# Altium footprint library BAT_1056.PcbLib: 1 footprints
Each footprint in its own frame and in the unit in brackets; x right, y up, seen from the top. Pads: shape width x height; smd on the part's side, far side on the other; paste and mask are expansions set on the pad; w line width, h text height; cw(c..) or ccw(c..) is an arc to the next point about the centre after c.
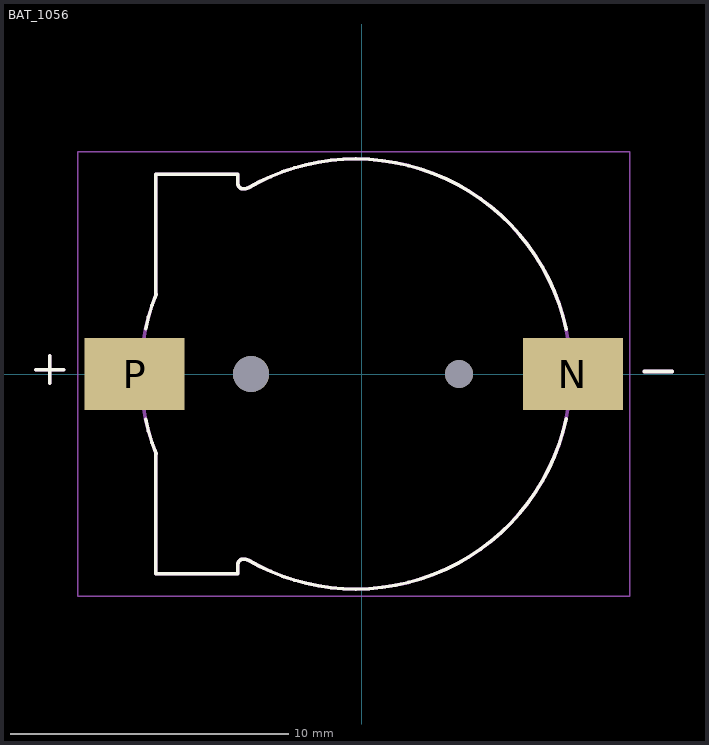
[diagram p0: the footprint, top view; thin cyan lines are the x and y axes]

## BAT_1056 [mm]
height 3.99
pads (4):
  rect 3.6x2.6 smd: N(7.61,0) P(-8.18,0)
  round 1.3 hole 1.3 unplated: ""(-3.98,0)
  round 1 hole 1 unplated: ""(3.51,0)
Top Overlay:
  lines w0.127: -11.735,0.16 -10.735,0.16 ; -11.235,-0.34 -11.235,0.66 ; -7.78,-1.632 ccw(c-0.484,-0.082) -7.4,-2.876 ; -7.78,1.632 cw(c-0.484,0.082) -7.4,2.876 ; -7.41,-2.85 -7.41,-7.2 -4.46,-7.2 -4.46,-6.88 ; -7.41,2.85 -7.41,7.2 -4.46,7.2 -4.46,6.88 ; -4.46,-6.881 cw(c-4.255,-6.87) -4.266,-6.665 cw(c-4.248,-7.014) -4.084,-6.705 ; -4.46,6.881 ccw(c-4.255,6.87) -4.266,6.665 ccw(c-4.248,7.014) -4.084,6.705 ; -4.078,-6.709 ccw(c-0.212,-0.013) -0.212,-7.745 ; -4.078,6.709 cw(c-0.212,0.013) -0.212,7.745 ; -0.21,-7.745 ccw(c-0.21,0) 7.366,-1.61 ; -0.21,7.745 cw(c-0.21,0) 7.366,1.61 ; 10.185,0.09 11.185,0.09
Mechanical 13:
  lines w0.127: -11.735,0.16 -10.735,0.16 ; -11.235,-0.34 -11.235,0.66 ; -7.41,-2.85 -7.41,-7.2 -4.46,-7.2 -4.46,-6.88 ; -7.41,2.85 -7.41,7.2 -4.46,7.2 -4.46,6.88 ; -7.393,-2.893 cw(c-0.231,0) -7.393,2.893 ; -4.46,-6.881 cw(c-4.255,-6.87) -4.266,-6.665 cw(c-4.248,-7.014) -4.084,-6.705 ; -4.46,6.881 ccw(c-4.255,6.87) -4.266,6.665 ccw(c-4.248,7.014) -4.084,6.705 ; -4.078,-6.709 ccw(c-0.212,-0.013) -0.212,-7.745 ; -4.078,6.709 cw(c-0.212,0.013) -0.212,7.745 ; -0.21,-7.745 ccw(c-0.21,0) -0.21,7.745 ; 10.185,0.09 11.185,0.09
Mechanical 15:
  lines w0.05: -10.23,-8 -10.23,8 9.66,8 9.66,-8 -10.23,-8
3D body "1056--3DModel-STEP-630548.STEP": height 4.17, standoff -0.99, extent -9.585,-7.504 9.215,7.634